# EAGLE library part PCF8584 (library 68komputer)
PCF8584 – I2C Bus Controller Datasheet <https://www.nxp.com/docs/en/data-sheet/PCF8584.pdf?>
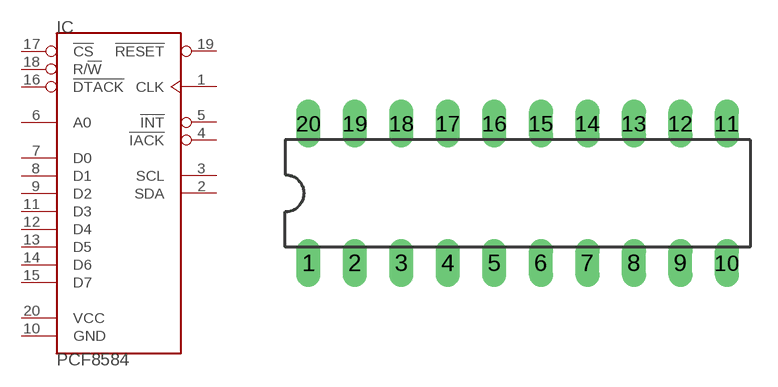
[diagram p36: symbol with the pads of DIL20; footprint DIL20]

Designator prefix IC

## PCF8584DIL20 (VALUE: PCF8584)  [DIL20]
1  CLK  in
2  SDA
3  SCL
4  !IACK  in
5  !INT  out
6  A0  in
7  D0
8  D1
9  D2
10  GND  pwr
11  D3
12  D4
13  D5
14  D6
15  D7
16  !DTACK  out
17  !CS  in
18  R/!W!  in
19  !RESET  in
20  VCC  pwr

## Footprint DIL20 (pad centres in mm)
Dual In Line Package
drill 0.813 long: 1 -11.43,-3.81; 2 -8.89,-3.81; 3 -6.35,-3.81; 4 -3.81,-3.81; 5 -1.27,-3.81; 6 1.27,-3.81; 7 3.81,-3.81; 8 6.35,-3.81; 9 8.89,-3.81; 10 11.43,-3.81; 11 11.43,3.81; 12 8.89,3.81; 13 6.35,3.81; 14 3.81,3.81; 15 1.27,3.81; 16 -1.27,3.81; 17 -3.81,3.81; 18 -6.35,3.81; 19 -8.89,3.81; 20 -11.43,3.81